# EAGLE library part PMA5-123-3W+ (library PMA5-123-3W+)
Mini-Circuits SMT MMIC, High Power Amplifier, 8 to 12 GHz, 50ohm Source: Datasheet <https://www.minicircuits.com/pdfs/PMA5-123-3W .pdf>
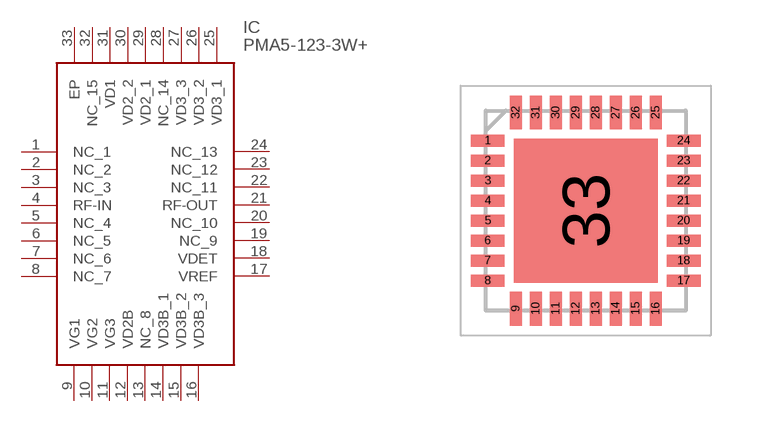
[diagram p0: symbol with the pads of QFN50P500X500X100-33N; footprint QFN50P500X500X100-33N]

Designator prefix IC

## PMA5-123-3W+ (Description: Mini-Circuits SMT MMIC, High Power Amplifier, 8 to 12 GHz, 50ohm; Height: 1mm; Manufacturer_Name: Mini-Circuits; Manufacturer_Part_Number: PMA5-123-3W+)  [QFN50P500X500X100-33N]
1  NC_1
2  NC_2
3  NC_3
4  RF-IN
5  NC_4
6  NC_5
7  NC_6
8  NC_7
9  VG1
10  VG2
11  VG3
12  VD2B
13  NC_8
14  VD3B_1
15  VD3B_2
16  VD3B_3
17  VREF
18  VDET
19  NC_9
20  NC_10
21  RF-OUT
22  NC_11
23  NC_12
24  NC_13
25  VD3_1
26  VD3_2
27  VD3_3
28  NC_14
29  VD2_1
30  VD2_2
31  VD1
32  NC_15
33  EP

## Footprint QFN50P500X500X100-33N (pad centres in mm)
32-Lead QFN
smd 0.85 x 0.3: 1 -2.45,1.75; 2 -2.45,1.25; 3 -2.45,0.75; 4 -2.45,0.25; 5 -2.45,-0.25; 6 -2.45,-0.75; 7 -2.45,-1.25; 8 -2.45,-1.75; 17 2.45,-1.75; 18 2.45,-1.25; 19 2.45,-0.75; 20 2.45,-0.25; 21 2.45,0.25; 22 2.45,0.75; 23 2.45,1.25; 24 2.45,1.75
smd 0.3 x 0.85: 9 -1.75,-2.45; 10 -1.25,-2.45; 11 -0.75,-2.45; 12 -0.25,-2.45; 13 0.25,-2.45; 14 0.75,-2.45; 15 1.25,-2.45; 16 1.75,-2.45; 25 1.75,2.45; 26 1.25,2.45; 27 0.75,2.45; 28 0.25,2.45; 29 -0.25,2.45; 30 -0.75,2.45; 31 -1.25,2.45; 32 -1.75,2.45
smd 3.6 x 3.6: 33 0,0